# Altium footprint library soic_20.PcbLib: 1 footprints
Each footprint in its own frame and in the unit in brackets; x right, y up, seen from the top. Pads: shape width x height; smd on the part's side, far side on the other; paste and mask are expansions set on the pad; w line width, h text height; cw(c..) or ccw(c..) is an arc to the next point about the centre after c.
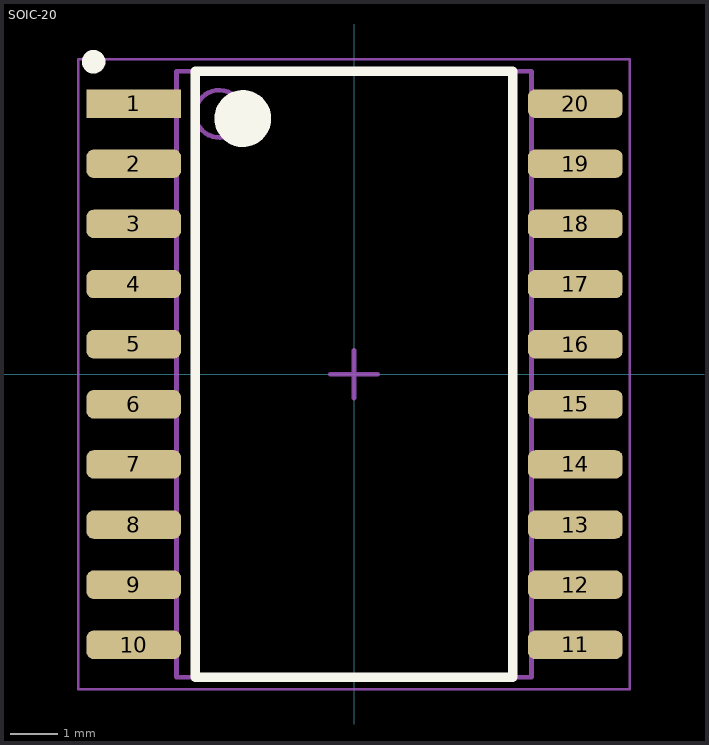
[diagram p0: the footprint, top view; thin cyan lines are the x and y axes]

## SOIC-20 [mm] "SOIC, 20-Leads, Body 12,80x7,50mm, Pitch 1,27mm, IPC Medium Density"
height 2.65
pads (20):
  rect 2x0.6 smd: 1(-4.65,5.715)
  rrect50% 2x0.6 smd: 2(-4.65,4.445) 3(-4.65,3.175) 4(-4.65,1.905) 5(-4.65,0.635) 6(-4.65,-0.635) 7(-4.65,-1.905) 8(-4.65,-3.175) 9(-4.65,-4.445) 10(-4.65,-5.715) 11(4.675,-5.715) 12(4.675,-4.445) 13(4.675,-3.175) 14(4.675,-1.905) 15(4.675,-0.635) 16(4.675,0.635) 17(4.675,1.905) 18(4.675,3.175) 19(4.675,4.445) 20(4.675,5.715)
Top Overlay:
  circle w0.25: c-5.5,6.6 r0.125
  circle w0.6: c-2.35,5.4 r0.3
  lines w0.2: -3.35,-6.4 -3.35,6.4 3.35,6.4 3.35,-6.4 -3.35,-6.4
Top Comment:
  text ".Comment" at 0.9,6.8 h1.2
Top Designator:
  text ".Designator" at -0.8,6.8 h1.2
Top Component Outline:
  circle w0.1: c-2.85,5.5 r0.5
  lines w0.1: -3.75,-6.4 -3.75,6.4 3.75,6.4 3.75,-6.4 -3.75,-6.4
Top Courtyard (Mech15):
  lines w0.05: -5.825,-6.65 -5.825,6.65 5.825,6.65 5.825,-6.65 -5.825,-6.65
  lines w0.1: -0.5,0 0.5,0 ; 0,-0.5 0,0.5
3D body "SOIC-20.STEP": height 2.65, standoff 0, extent -5.242,-6.425 5.243,6.425